# Altium footprint library 10033526N3212LF.PcbLib: 1 footprints
Each footprint in its own frame and in the unit in brackets; x right, y up, seen from the top. Pads: shape width x height; smd on the part's side, far side on the other; paste and mask are expansions set on the pad; w line width, h text height; cw(c..) or ccw(c..) is an arc to the next point about the centre after c.
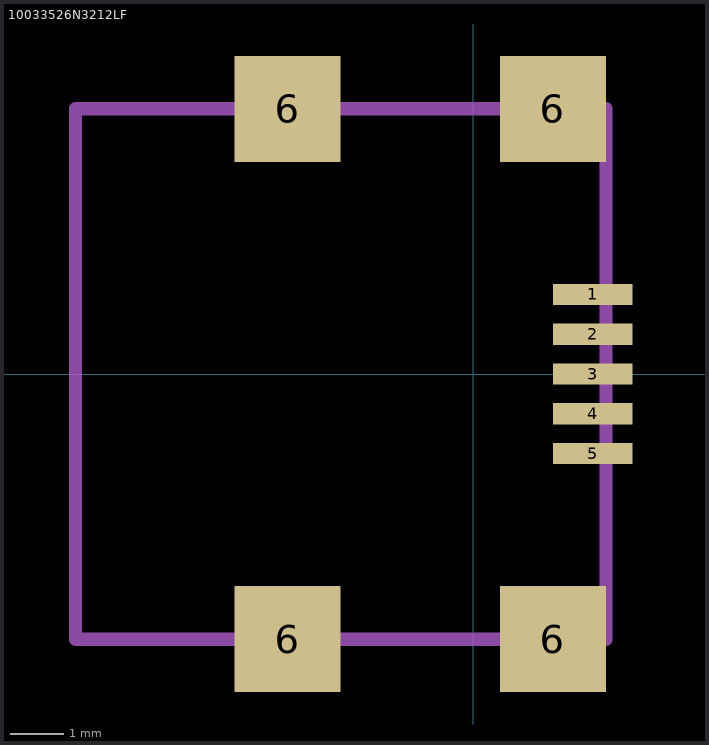
[diagram p0: the footprint, top view; thin cyan lines are the x and y axes]

## 10033526N3212LF [mm]
pads (9):
  rect 1.5x0.4 smd: 1(2.25,1.5) 2(2.25,0.75) 3(2.25,0) 4(2.25,-0.75) 5(2.25,-1.5)
  rect 2x2 smd: 6(-3.5,-5) 6(-3.5,5) 6(1.5,-5) 6(1.5,5)
TopAssy:
  lines w0.25: -7.5,-5 2.5,-5 2.5,5 -7.5,5 -7.5,-5
3D body "User Library-UX60-MB-5ST.STEP": height 4.7, standoff -0.4, extent -6.65,-4.95 2.35,4.95